# Altium schematic symbol library CON_DC_JACK.Schlib: 1 symbol
Pins are listed as number, name and electrical type; pins without a type are passive.

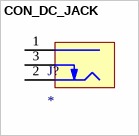
[diagram p0: symbol CON_DC_JACK]

## CON_DC_JACK
designator J?
pins: 1 Centre, 2 Outer, 3 SW